# EAGLE library part NMOSMSOP8 (library zetex)
MOS FET
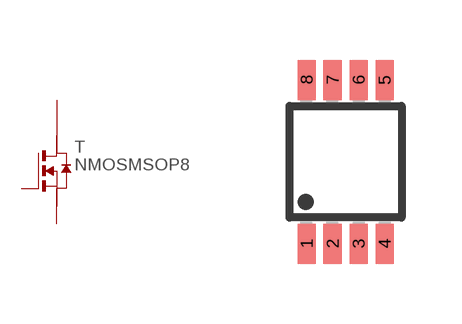
[diagram p11: symbol with the pads of MSOP8; footprint MSOP8]

Designator prefix T

## NMOSMSOP8 (OC_FARNELL: unknown; OC_NEWARK: unknown)  [MSOP8]
1  D  pas
2  D1  pas
3  D2  pas
4  D3  pas
5  S  pas
6  S1  pas
7  S2  pas
8  G  pas

## Footprint MSOP8 (pad centres in mm)
Micro Small Outline Package
smd 0.45 x 1: 1 -0.975,-2.05; 2 -0.325,-2.05; 3 0.325,-2.05; 4 0.975,-2.05; 5 0.975,2.05; 6 0.325,2.05; 7 -0.325,2.05; 8 -0.975,2.05